# Altium schematic symbol library Connectors.SchLib: 96 symbols
Pins are listed as number, name and electrical type; pins without a type are passive.

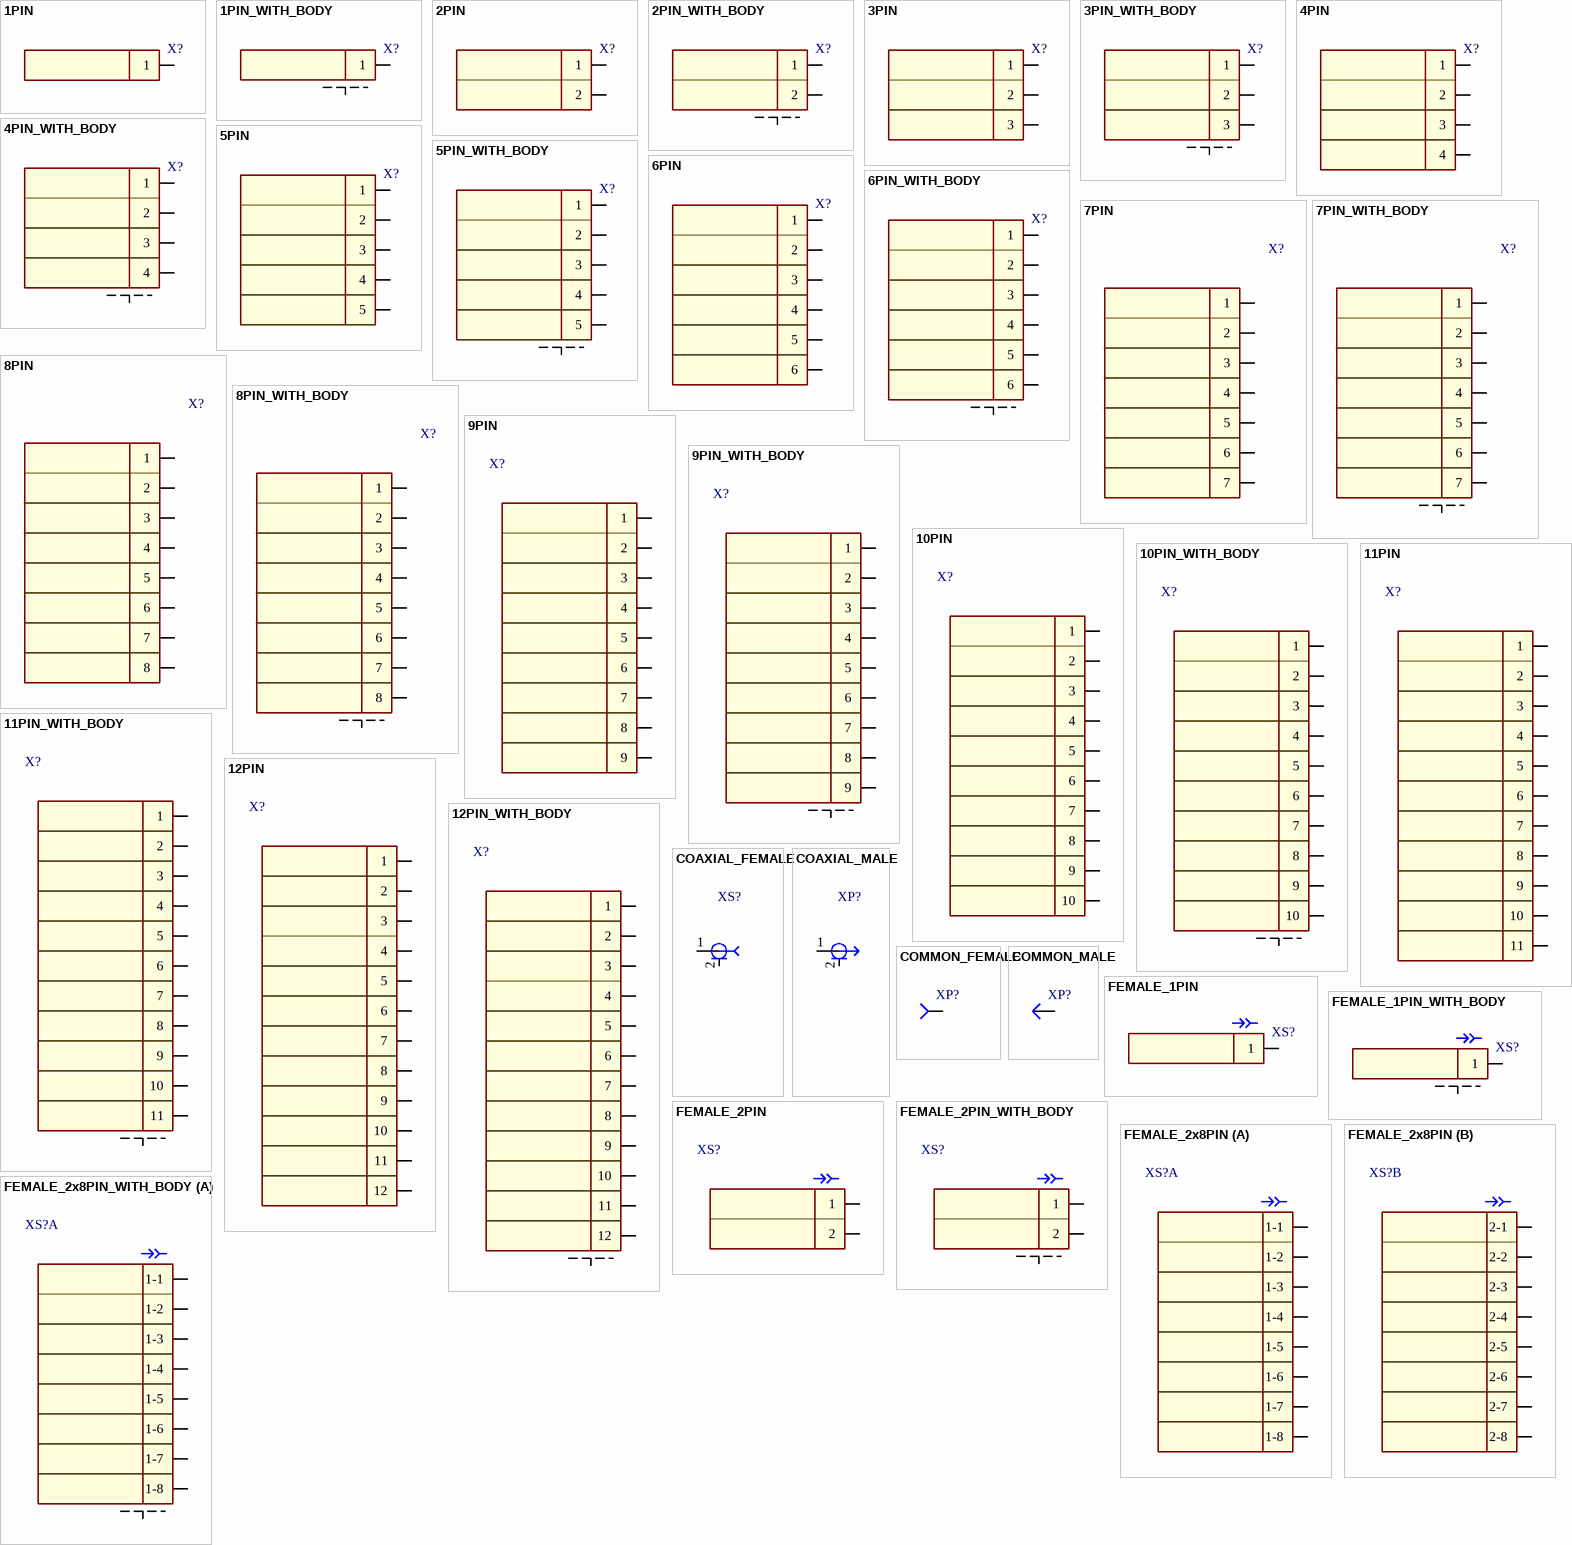
[diagram p0: symbols 1PIN to FEMALE_2x8PIN_WITH_BODY]

## 1PIN
designator X?
pins: 1

## 1PIN_WITH_BODY
designator X?
pins: 0, 1

## 2PIN
designator X?
pins: 1, 2

## 2PIN_WITH_BODY
designator X?
pins: 0, 1, 2

## 3PIN
designator X?
pins: 1, 2, 3

## 3PIN_WITH_BODY
designator X?
pins: 0, 1, 2, 3

## 4PIN
designator X?
pins: 1, 2, 3, 4

## 4PIN_WITH_BODY
designator X?
pins: 0, 1, 2, 3, 4

## 5PIN
designator X?
pins: 1, 2, 3, 4, 5

## 5PIN_WITH_BODY
designator X?
pins: 0, 1, 2, 3, 4, 5

## 6PIN
designator X?
pins: 1, 2, 3, 4, 5, 6

## 6PIN_WITH_BODY
designator X?
pins: 0, 1, 2, 3, 4, 5, 6

## 7PIN
designator X?
pins: 1, 2, 3, 4, 5, 6, 7

## 7PIN_WITH_BODY
designator X?
pins: 0, 1, 2, 3, 4, 5, 6, 7

## 8PIN
designator X?
pins: 1, 2, 3, 4, 5, 6, 7, 8

## 8PIN_WITH_BODY
designator X?
pins: 0, 1, 2, 3, 4, 5, 6, 7, 8

## 9PIN
designator X?
pins: 1, 2, 3, 4, 5, 6, 7, 8, 9

## 9PIN_WITH_BODY
designator X?
pins: 0, 1, 2, 3, 4, 5, 6, 7, 8, 9

## 10PIN
designator X?
pins: 1, 2, 3, 4, 5, 6, 7, 8, 9, 10

## 10PIN_WITH_BODY
designator X?
pins: 0, 1, 2, 3, 4, 5, 6, 7, 8, 9, 10

## 11PIN
designator X?
pins: 1, 2, 3, 4, 5, 6, 7, 8, 9, 10, 11

## 11PIN_WITH_BODY
designator X?
pins: 0, 1, 2, 3, 4, 5, 6, 7, 8, 9, 10, 11

## 12PIN
designator X?
pins: 1, 2, 3, 4, 5, 6, 7, 8, 9, 10, 11, 12

## 12PIN_WITH_BODY
designator X?
pins: 0, 1, 2, 3, 4, 5, 6, 7, 8, 9, 10, 11, 12

## COAXIAL_FEMALE
designator XS?
pins: 1, 2

## COAXIAL_MALE
designator XP?
pins: 1, 2

## COMMON_FEMALE
designator XP?
pins: 1

## COMMON_MALE
designator XP?
pins: 1

## FEMALE_1PIN
designator XS?
pins: 1

## FEMALE_1PIN_WITH_BODY
designator XS?
pins: 0, 1

## FEMALE_2PIN
designator XS?
pins: 1, 2

## FEMALE_2PIN_WITH_BODY
designator XS?
pins: 0, 1, 2

## FEMALE_2x8PIN
designator XS?
part A pins: 1-1, 1-2, 1-3, 1-4, 1-5, 1-6, 1-7, 1-8
part B pins: 2-1, 2-2, 2-3, 2-4, 2-5, 2-6, 2-7, 2-8

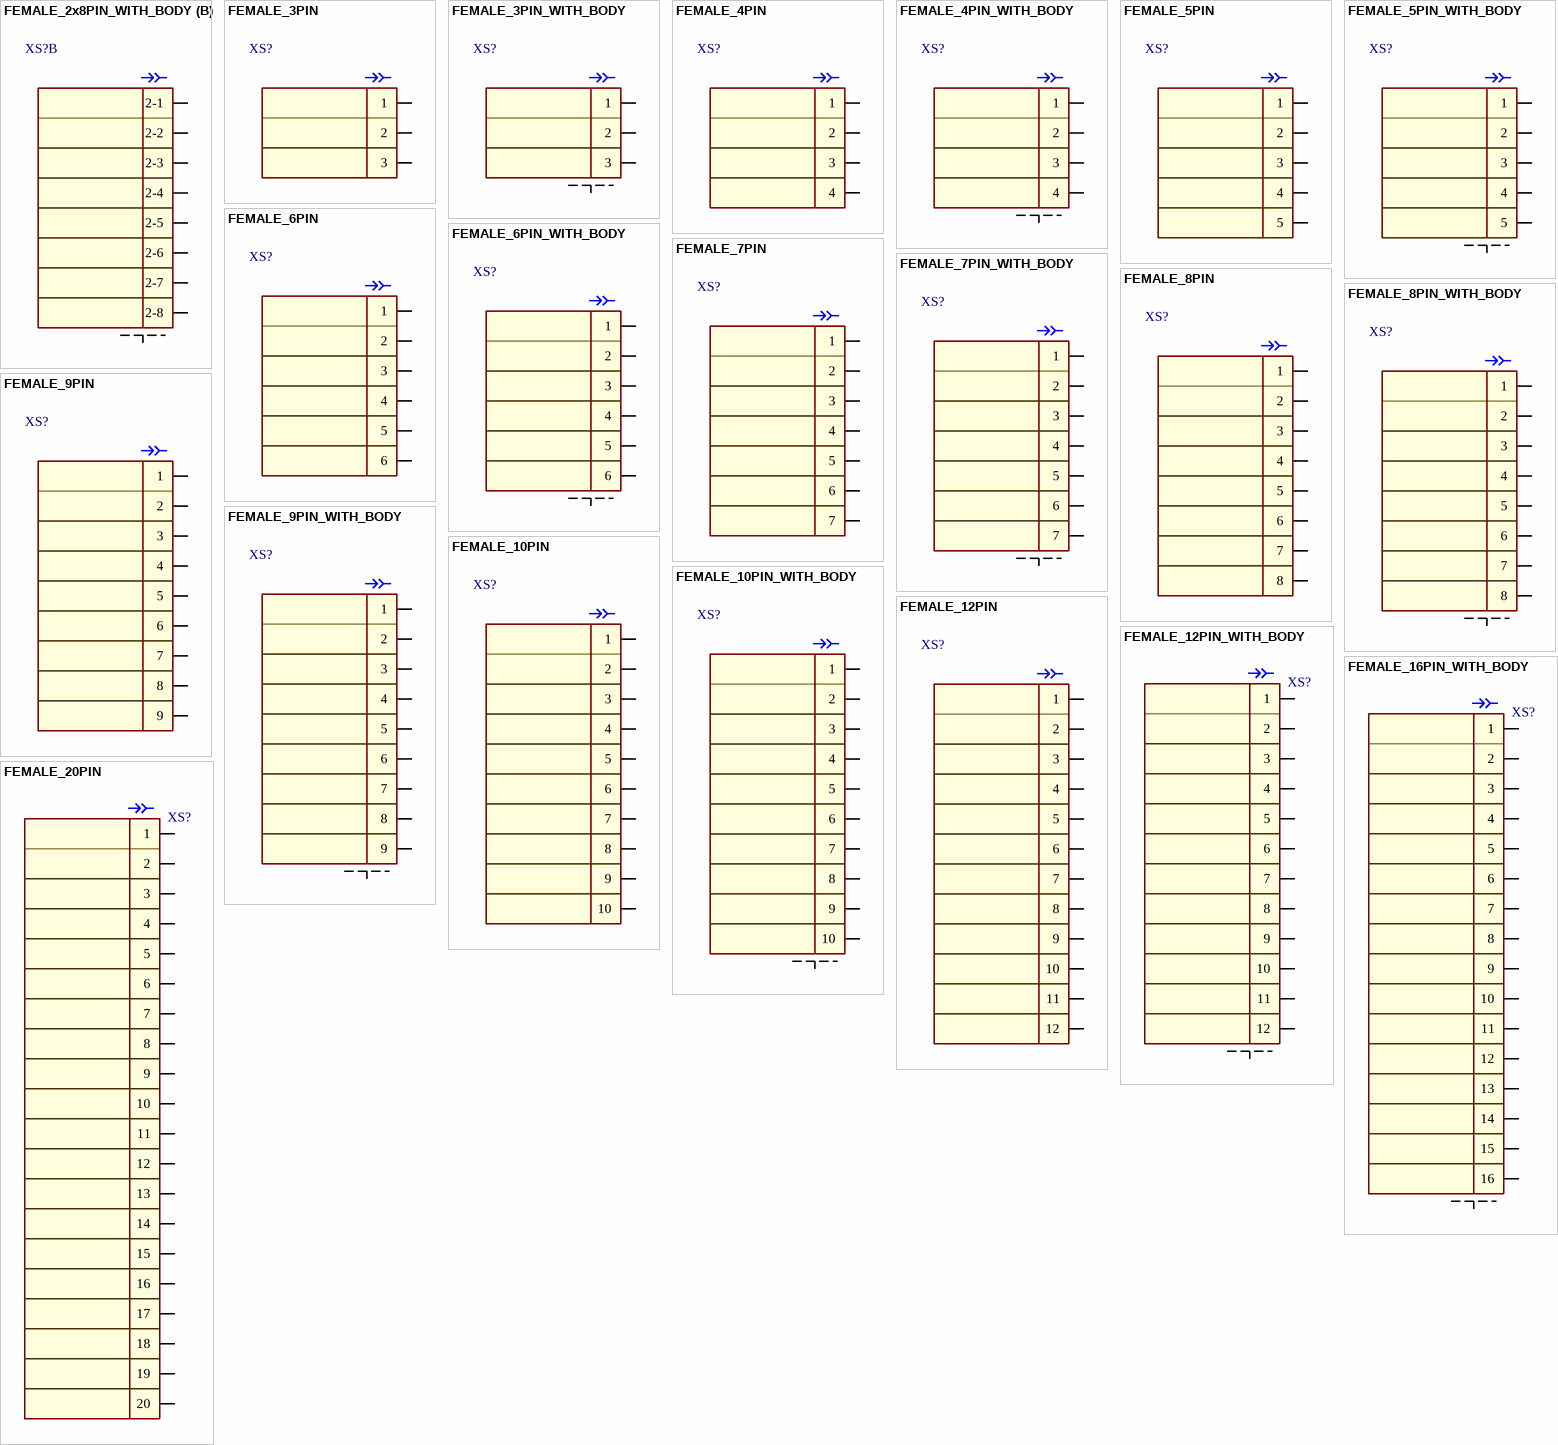
[diagram p1: symbols FEMALE_2x8PIN_WITH_BODY to FEMALE_20PIN]

## FEMALE_2x8PIN_WITH_BODY
designator XS?
part A pins: 0, 1-1, 1-2, 1-3, 1-4, 1-5, 1-6, 1-7, 1-8
part B pins: 0, 2-1, 2-2, 2-3, 2-4, 2-5, 2-6, 2-7, 2-8

## FEMALE_3PIN
designator XS?
pins: 1, 2, 3

## FEMALE_3PIN_WITH_BODY
designator XS?
pins: 0, 1, 2, 3

## FEMALE_4PIN
designator XS?
pins: 1, 2, 3, 4

## FEMALE_4PIN_WITH_BODY
designator XS?
pins: 0, 1, 2, 3, 4

## FEMALE_5PIN
designator XS?
pins: 1, 2, 3, 4, 5

## FEMALE_5PIN_WITH_BODY
designator XS?
pins: 0, 1, 2, 3, 4, 5

## FEMALE_6PIN
designator XS?
pins: 1, 2, 3, 4, 5, 6

## FEMALE_6PIN_WITH_BODY
designator XS?
pins: 0, 1, 2, 3, 4, 5, 6

## FEMALE_7PIN
designator XS?
pins: 1, 2, 3, 4, 5, 6, 7

## FEMALE_7PIN_WITH_BODY
designator XS?
pins: 0, 1, 2, 3, 4, 5, 6, 7

## FEMALE_8PIN
designator XS?
pins: 1, 2, 3, 4, 5, 6, 7, 8

## FEMALE_8PIN_WITH_BODY
designator XS?
pins: 0, 1, 2, 3, 4, 5, 6, 7, 8

## FEMALE_9PIN
designator XS?
pins: 1, 2, 3, 4, 5, 6, 7, 8, 9

## FEMALE_9PIN_WITH_BODY
designator XS?
pins: 0, 1, 2, 3, 4, 5, 6, 7, 8, 9

## FEMALE_10PIN
designator XS?
pins: 1, 2, 3, 4, 5, 6, 7, 8, 9, 10

## FEMALE_10PIN_WITH_BODY
designator XS?
pins: 0, 1, 2, 3, 4, 5, 6, 7, 8, 9, 10

## FEMALE_12PIN
designator XS?
pins: 1, 2, 3, 4, 5, 6, 7, 8, 9, 10, 11, 12

## FEMALE_12PIN_WITH_BODY
designator XS?
footprint FFC_FPC_12pin_0.5mm_top_cont (0.5mm FFC/FPC connector, 90° SMT type, ZIF, top contact style)
pins: 0, 1, 2, 3, 4, 5, 6, 7, 8, 9, 10, 11, 12

## FEMALE_16PIN_WITH_BODY
designator XS?
footprint FFC_FPC_16pin_0.5mm_top_cont (0.5mm FFC/FPC connector, 90° SMT type, ZIF, top contact style)
pins: 0, 1, 2, 3, 4, 5, 6, 7, 8, 9, 10, 11, 12, 13, 14, 15, 16

## FEMALE_20PIN
designator XS?
pins: 1, 2, 3, 4, 5, 6, 7, 8, 9, 10, 11, 12, 13, 14, 15, 16, 17, 18, 19, 20

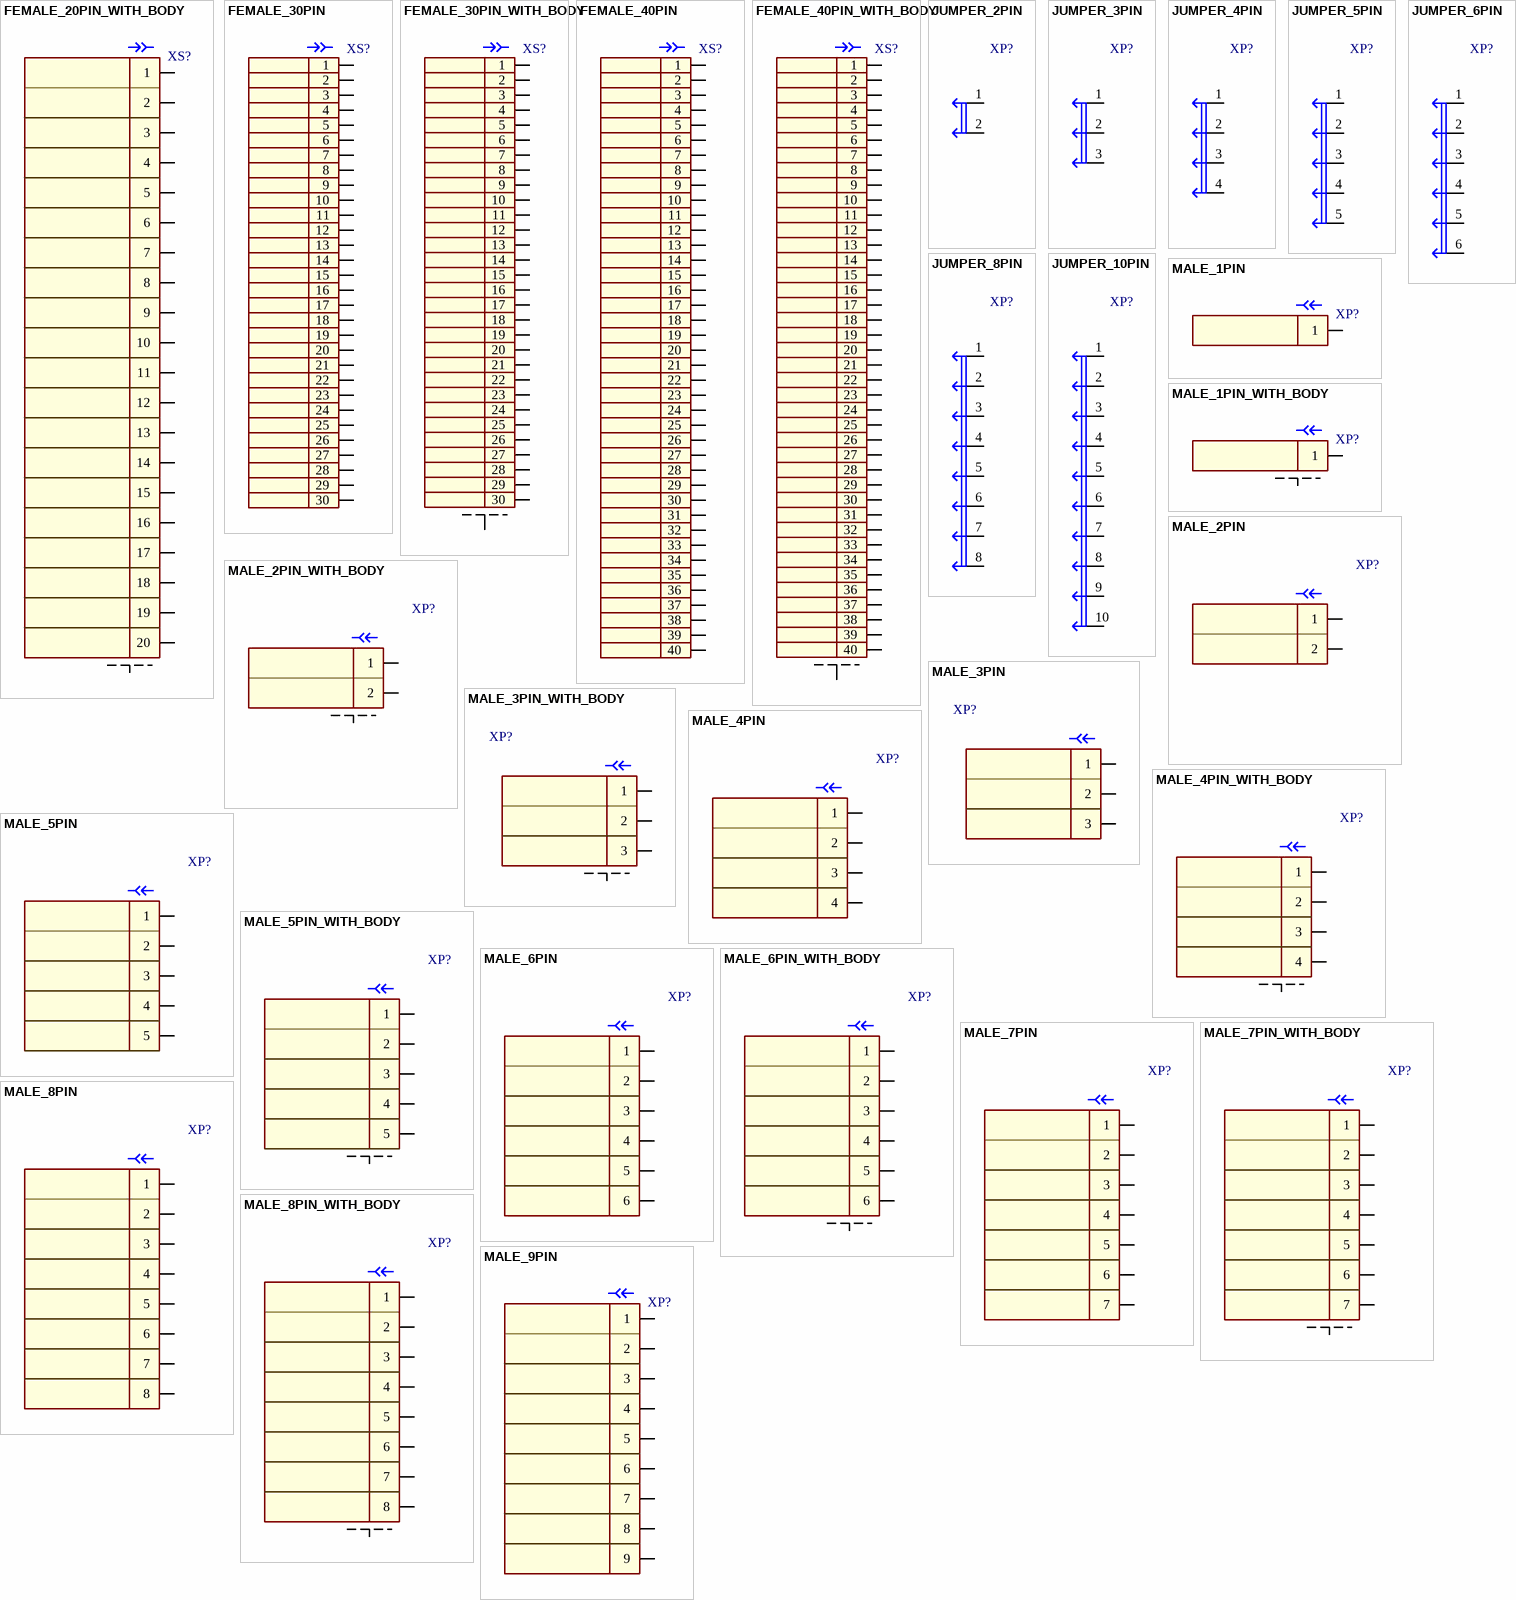
[diagram p2: symbols FEMALE_20PIN_WITH_BODY to MALE_9PIN]

## FEMALE_20PIN_WITH_BODY
designator XS?
footprint FFC_FPC_20pin_0.5mm_top_cont (0.5mm FFC/FPC connector, 90° SMT type, ZIF, top contact style)
pins: 0, 1, 2, 3, 4, 5, 6, 7, 8, 9, 10, 11, 12, 13, 14, 15, 16, 17, 18, 19, 20

## FEMALE_30PIN
designator XS?
pins: 1, 2, 3, 4, 5, 6, 7, 8, 9, 10, 11, 12, 13, 14, 15, 16, 17, 18, 19, 20, 21, 22, 23, 24, 25, 26, 27, 28, 29, 30

## FEMALE_30PIN_WITH_BODY
designator XS?
footprint FFC_FPC_30pin_0.5mm_top_cont (0.5mm FFC/FPC connector, 90° SMT type, ZIF, top contact style)
pins: 0, 1, 2, 3, 4, 5, 6, 7, 8, 9, 10, 11, 12, 13, 14, 15, 16, 17, 18, 19, 20, 21, 22, 23, 24, 25, 26, 27, 28, 29, 30

## FEMALE_40PIN
designator XS?
pins: 1, 2, 3, 4, 5, 6, 7, 8, 9, 10, 11, 12, 13, 14, 15, 16, 17, 18, 19, 20, 21, 22, 23, 24, 25, 26, 27, 28, 29, 30, 31, 32, 33, 34, 35, 36, 37, 38, 39, 40

## FEMALE_40PIN_WITH_BODY
designator XS?
footprint FFC_FPC_40pin_0.5mm_top_cont (0.5mm FFC/FPC connector, 90° SMT type, ZIF, top contact style)
pins: 0, 1, 2, 3, 4, 5, 6, 7, 8, 9, 10, 11, 12, 13, 14, 15, 16, 17, 18, 19, 20, 21, 22, 23, 24, 25, 26, 27, 28, 29, 30, 31, 32, 33, 34, 35, 36, 37, 38, 39, 40

## JUMPER_2PIN
designator XP?
pins: 1, 2

## JUMPER_3PIN
designator XP?
pins: 1, 2, 3

## JUMPER_4PIN
designator XP?
pins: 1, 2, 3, 4

## JUMPER_5PIN
designator XP?
pins: 1, 2, 3, 4, 5

## JUMPER_6PIN
designator XP?
pins: 1, 2, 3, 4, 5, 6

## JUMPER_8PIN
designator XP?
pins: 1, 2, 3, 4, 5, 6, 7, 8

## JUMPER_10PIN
designator XP?
pins: 1, 2, 3, 4, 5, 6, 7, 8, 9, 10

## MALE_1PIN
designator XP?
pins: 1

## MALE_1PIN_WITH_BODY
designator XP?
pins: 0, 1

## MALE_2PIN
designator XP?
pins: 1, 2

## MALE_2PIN_WITH_BODY
designator XP?
pins: 0, 1, 2

## MALE_3PIN
designator XP?
pins: 1, 2, 3

## MALE_3PIN_WITH_BODY
designator XP?
pins: 0, 1, 2, 3

## MALE_4PIN
designator XP?
pins: 1, 2, 3, 4

## MALE_4PIN_WITH_BODY
designator XP?
pins: 0, 1, 2, 3, 4

## MALE_5PIN
designator XP?
pins: 1, 2, 3, 4, 5

## MALE_5PIN_WITH_BODY
designator XP?
pins: 0, 1, 2, 3, 4, 5

## MALE_6PIN
designator XP?
pins: 1, 2, 3, 4, 5, 6

## MALE_6PIN_WITH_BODY
designator XP?
pins: 0, 1, 2, 3, 4, 5, 6

## MALE_7PIN
designator XP?
pins: 1, 2, 3, 4, 5, 6, 7

## MALE_7PIN_WITH_BODY
designator XP?
pins: 0, 1, 2, 3, 4, 5, 6, 7

## MALE_8PIN
designator XP?
pins: 1, 2, 3, 4, 5, 6, 7, 8

## MALE_8PIN_WITH_BODY
designator XP?
pins: 0, 1, 2, 3, 4, 5, 6, 7, 8

## MALE_9PIN
designator XP?
pins: 1, 2, 3, 4, 5, 6, 7, 8, 9

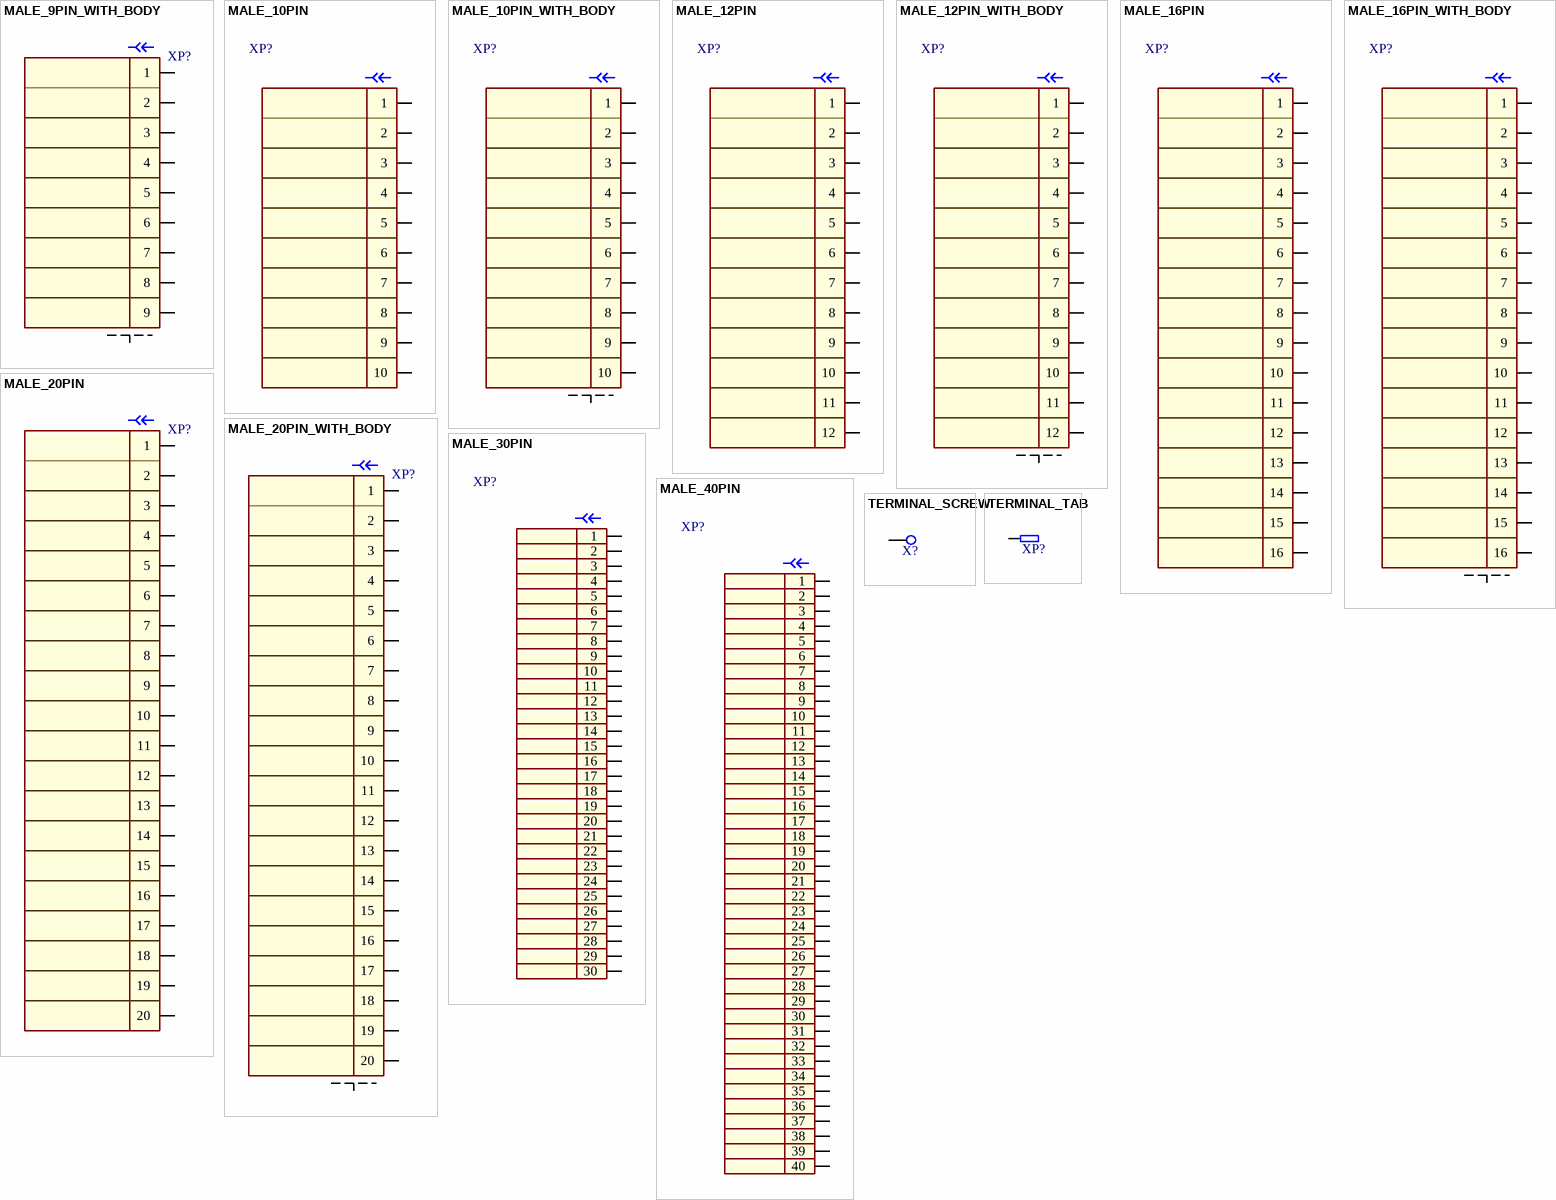
[diagram p3: symbols MALE_9PIN_WITH_BODY to TERMINAL_TAB]

## MALE_9PIN_WITH_BODY
designator XP?
pins: 0, 1, 2, 3, 4, 5, 6, 7, 8, 9

## MALE_10PIN
designator XP?
pins: 1, 2, 3, 4, 5, 6, 7, 8, 9, 10

## MALE_10PIN_WITH_BODY
designator XP?
pins: 0, 1, 2, 3, 4, 5, 6, 7, 8, 9, 10

## MALE_12PIN
designator XP?
pins: 1, 2, 3, 4, 5, 6, 7, 8, 9, 10, 11, 12

## MALE_12PIN_WITH_BODY
designator XP?
pins: 0, 1, 2, 3, 4, 5, 6, 7, 8, 9, 10, 11, 12

## MALE_16PIN
designator XP?
pins: 1, 2, 3, 4, 5, 6, 7, 8, 9, 10, 11, 12, 13, 14, 15, 16

## MALE_16PIN_WITH_BODY
designator XP?
pins: 0, 1, 2, 3, 4, 5, 6, 7, 8, 9, 10, 11, 12, 13, 14, 15, 16

## MALE_20PIN
designator XP?
pins: 1, 2, 3, 4, 5, 6, 7, 8, 9, 10, 11, 12, 13, 14, 15, 16, 17, 18, 19, 20

## MALE_20PIN_WITH_BODY
designator XP?
pins: 0, 1, 2, 3, 4, 5, 6, 7, 8, 9, 10, 11, 12, 13, 14, 15, 16, 17, 18, 19, 20

## MALE_30PIN
designator XP?
pins: 1, 2, 3, 4, 5, 6, 7, 8, 9, 10, 11, 12, 13, 14, 15, 16, 17, 18, 19, 20, 21, 22, 23, 24, 25, 26, 27, 28, 29, 30

## MALE_40PIN
designator XP?
pins: 1, 2, 3, 4, 5, 6, 7, 8, 9, 10, 11, 12, 13, 14, 15, 16, 17, 18, 19, 20, 21, 22, 23, 24, 25, 26, 27, 28, 29, 30, 31, 32, 33, 34, 35, 36, 37, 38, 39, 40

## TERMINAL_SCREW
designator X?
pins: 1

## TERMINAL_TAB
designator XP?
footprint 1217861-1 (Ножевая клемма 6.35мм)
footprint 1217861-1_V2 (Ножевая клемма 6.35мм)
pins: 1